# Altium footprint library Molex.PcbLib: 1 footprints
Each footprint in its own frame and in the unit in brackets; x right, y up, seen from the top. Pads: shape width x height; smd on the part's side, far side on the other; paste and mask are expansions set on the pad; w line width, h text height; cw(c..) or ccw(c..) is an arc to the next point about the centre after c.
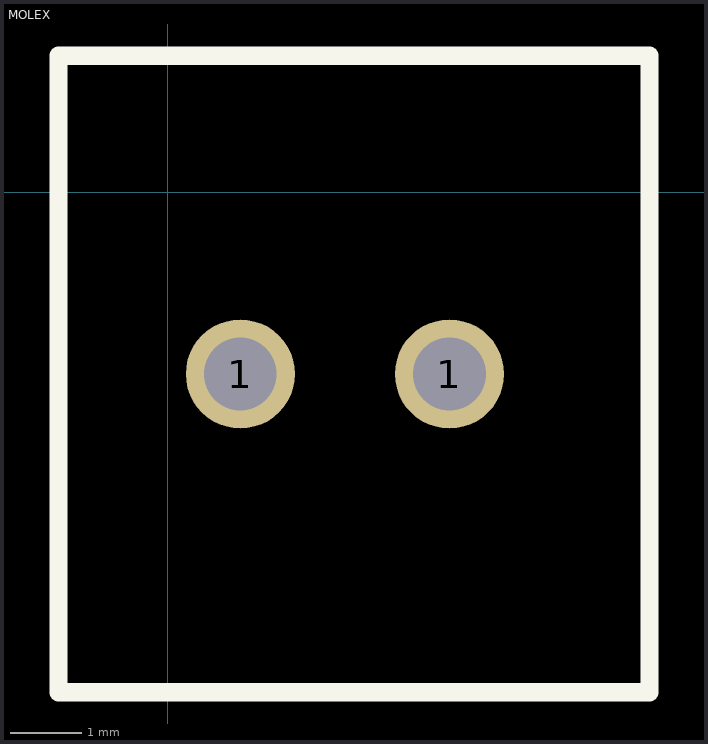
[diagram p0: the footprint, top view; thin cyan lines are the x and y axes]

## MOLEX [mil]
pads (2):
  round 60 hole 40 square: 1(40,-100) 1(155,-100)
Top Overlay:
  lines w10: -60,-275 -60,75 265,75 265,-275 -60,-275